# EAGLE library part TE-2-5530843-0 (library auv)
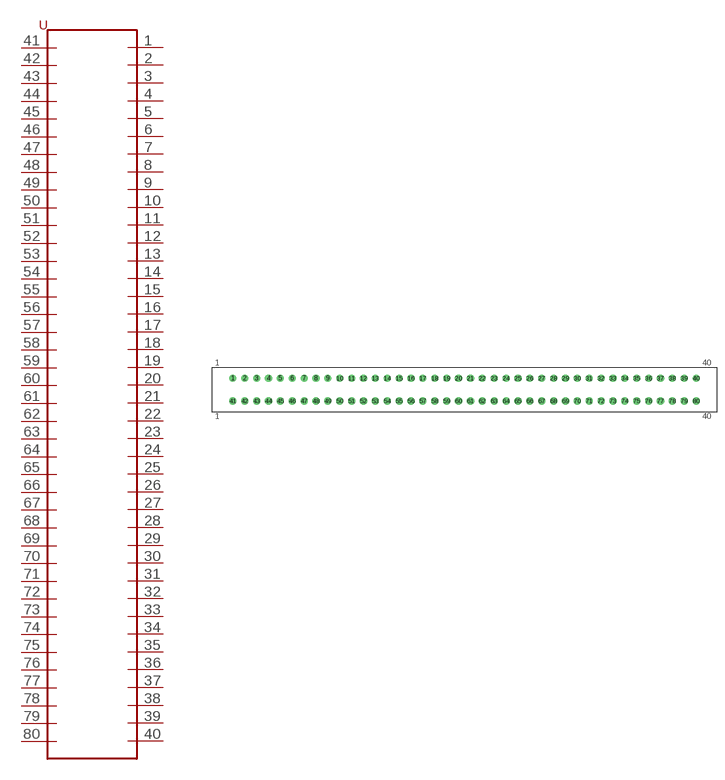
[diagram p1: symbol with the pads of TE-2-5530843-0; footprint TE-2-5530843-0]

Designator prefix -

## TE-2-5530843-0  [TE-2-5530843-0]
1  P$1
2  P$2
3  P$3
4  P$4
5  P$5
6  P$6
7  P$7
8  P$8
9  P$9
10  P$10
11  P$11
12  P$12
13  P$13
14  P$14
15  P$15
16  P$16
17  P$17
18  P$18
19  P$19
20  P$20
21  P$21
22  P$22
23  P$23
24  P$24
25  P$25
26  P$26
27  P$27
28  P$28
29  P$29
30  P$30
31  P$31
32  P$32
33  P$33
34  P$34
35  P$35
36  P$36
37  P$37
38  P$38
39  P$39
40  P$40
41  P$41
42  P$42
43  P$43
44  P$44
45  P$45
46  P$46
47  P$47
48  P$48
49  P$49
50  P$50
51  P$51
52  P$52
53  P$53
54  P$54
55  P$55
56  P$56
57  P$57
58  P$58
59  P$59
60  P$60
61  P$61
62  P$62
63  P$63
64  P$64
65  P$65
66  P$66
67  P$67
68  P$68
69  P$69
70  P$70
71  P$71
72  P$72
73  P$73
74  P$74
75  P$75
76  P$76
77  P$77
78  P$78
79  P$79
80  P$80

## Footprint TE-2-5530843-0 (pad centres in mm)
drill 1.016: 1 -49.53,2.426; 2 -46.99,2.426; 3 -44.45,2.426; 4 -41.91,2.426; 5 -39.37,2.426; 6 -36.83,2.426; 7 -34.29,2.426; 8 -31.75,2.426; 9 -29.21,2.426; 10 -26.67,2.426; 11 -24.13,2.426; 12 -21.59,2.426; 13 -19.05,2.426; 14 -16.51,2.426; 15 -13.97,2.426; 16 -11.43,2.426; 17 -8.89,2.426; 18 -6.35,2.426; 19 -3.81,2.426; 20 -1.27,2.426; 21 1.27,2.426; 22 3.81,2.426; 23 6.35,2.426; 24 8.89,2.426; 25 11.43,2.426; 26 13.97,2.426; 27 16.51,2.426; 28 19.05,2.426; 29 21.59,2.426; 30 24.13,2.426; 31 26.67,2.426; 32 29.21,2.426; 33 31.75,2.426; 34 34.29,2.426; 35 36.83,2.426; 36 39.37,2.426; 37 41.91,2.426; 38 44.45,2.426; 39 46.99,2.426; 40 49.53,2.426; 41 -49.53,-2.426; 42 -46.99,-2.426; 43 -44.45,-2.426; 44 -41.91,-2.426; 45 -39.37,-2.426; 46 -36.83,-2.426; 47 -34.29,-2.426; 48 -31.75,-2.426; 49 -29.21,-2.426; 50 -26.67,-2.426; 51 -24.13,-2.426; 52 -21.59,-2.426; 53 -19.05,-2.426; 54 -16.51,-2.426; 55 -13.97,-2.426; 56 -11.43,-2.426; 57 -8.89,-2.426; 58 -6.35,-2.426; 59 -3.81,-2.426; 60 -1.27,-2.426; 61 1.27,-2.426; 62 3.81,-2.426; 63 6.35,-2.426; 64 8.89,-2.426; 65 11.43,-2.426; 66 13.97,-2.426; 67 16.51,-2.426; 68 19.05,-2.426; 69 21.59,-2.426; 70 24.13,-2.426; 71 26.67,-2.426; 72 29.21,-2.426; 73 31.75,-2.426; 74 34.29,-2.426; 75 36.83,-2.426; 76 39.37,-2.426; 77 41.91,-2.426; 78 44.45,-2.426; 79 46.99,-2.426; 80 49.53,-2.426